# Altium schematic symbol library MSP432.SchLib: 3 symbols
Pins are listed as number, name and electrical type; pins without a type are passive.

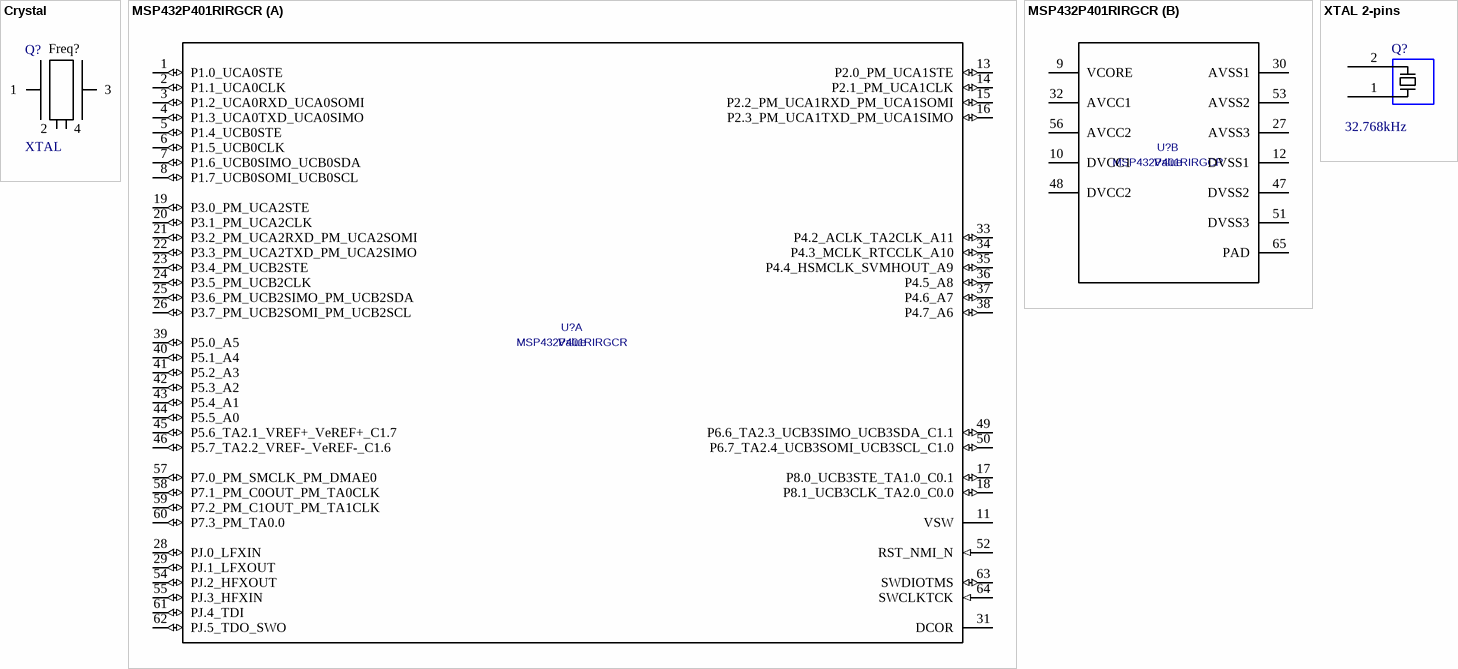
[diagram p0: symbols Crystal to XTAL 2-pins]

## Crystal
designator Q?, comment XTAL  value Freq?
Crystal with GND pins; LatestRevisionDate: 05-oct-2007  -  Semtech
footprint CX2016DB48000H0FLJC1
pins: 1, 2, 3, 4

## MSP432P401RIRGCR
designator U?
Manufacturer: Texas Instruments; PartNumber: MSP432P401RIRGCR; Value: Value
footprint RGC0064B
part A pins: 1 P1.0_UCA0STE (io), 2 P1.1_UCA0CLK (io), 3 P1.2_UCA0RXD_UCA0SOMI (io), 4 P1.3_UCA0TXD_UCA0SIMO (io), 5 P1.4_UCB0STE (io), 6 P1.5_UCB0CLK (io), 7 P1.6_UCB0SIMO_UCB0SDA (io), 8 P1.7_UCB0SOMI_UCB0SCL (io), 11 VSW (power), 13 P2.0_PM_UCA1STE (io), 14 P2.1_PM_UCA1CLK (io), 15 P2.2_PM_UCA1RXD_PM_UCA1SOMI (io), 16 P2.3_PM_UCA1TXD_PM_UCA1SIMO (io), 17 P8.0_UCB3STE_TA1.0_C0.1 (io), 18 P8.1_UCB3CLK_TA2.0_C0.0 (io), 19 P3.0_PM_UCA2STE (io), 20 P3.1_PM_UCA2CLK (io), 21 P3.2_PM_UCA2RXD_PM_UCA2SOMI (io), 22 P3.3_PM_UCA2TXD_PM_UCA2SIMO (io), 23 P3.4_PM_UCB2STE (io), 24 P3.5_PM_UCB2CLK (io), 25 P3.6_PM_UCB2SIMO_PM_UCB2SDA (io), 26 P3.7_PM_UCB2SOMI_PM_UCB2SCL (io), 28 PJ.0_LFXIN (io), 29 PJ.1_LFXOUT (io), 31 DCOR, 33 P4.2_ACLK_TA2CLK_A11 (io), 34 P4.3_MCLK_RTCCLK_A10 (io), 35 P4.4_HSMCLK_SVMHOUT_A9 (io), 36 P4.5_A8 (io), 37 P4.6_A7 (io), 38 P4.7_A6 (io), 39 P5.0_A5 (io), 40 P5.1_A4 (io), 41 P5.2_A3 (io), 42 P5.3_A2 (io), 43 P5.4_A1 (io), 44 P5.5_A0 (io), 45 P5.6_TA2.1_VREF+_VeREF+_C1.7 (io), 46 P5.7_TA2.2_VREF-_VeREF-_C1.6 (io), 49 P6.6_TA2.3_UCB3SIMO_UCB3SDA_C1.1 (io), 50 P6.7_TA2.4_UCB3SOMI_UCB3SCL_C1.0 (io), 52 RST_NMI_N (in), 54 PJ.2_HFXOUT (io), 55 PJ.3_HFXIN (io), 57 P7.0_PM_SMCLK_PM_DMAE0 (io), 58 P7.1_PM_C0OUT_PM_TA0CLK (io), 59 P7.2_PM_C1OUT_PM_TA1CLK (io), 60 P7.3_PM_TA0.0 (io), 61 PJ.4_TDI (io), 62 PJ.5_TDO_SWO (io), 63 SWDIOTMS (io), 64 SWCLKTCK (in)
part B pins: 9 VCORE (power), 10 DVCC1 (power), 12 DVSS1 (power), 27 AVSS3 (power), 30 AVSS1 (power), 32 AVCC1 (power), 47 DVSS2 (power), 48 DVCC2 (power), 51 DVSS3 (power), 53 AVSS2 (power), 56 AVCC2 (power), 65 PAD

## XTAL 2-pins
designator Q?, comment value 32.768kHz  (hidden comment: XTAL)
Crystal Oscillator - [3.20mm x 1.50mm]; Manufacturer: Epson Toyocom Corporation; Manufacturer Part Number: FC-135 32.7680KA-A3; Digi-Key Part Number: example: SE2413CT-ND
footprint XTAL [2.00mm x 1.20mm] (FC-135   crystal - epson eletronics)
pins: 1 (power) "Output", 2 (power) "Output"